# Altium schematic symbol library SI4532CDY-T1-GE3.SchLib: 1 symbol
Pins are listed as number, name and electrical type; pins without a type are passive.

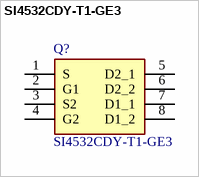
[diagram p0: symbol SI4532CDY-T1-GE3]

## SI4532CDY-T1-GE3
designator Q?
Vishay SI4532CDY-T1-GE3 Dual N/P-channel MOSFET Transistor, 8-Pin SOIC; Geometry.Height: 1.75mm; Mouser Part Number: 781-SI4532CDY-GE3; Mouser Price/Stock: https://www.mouser.co.uk/ProductDetail/Vishay-Semiconductors/SI4532CDY-T1-GE3?qs=45wPT2wjtGnob1HAmZ9n7g%3D%3D; Manufacturer_Name: Vishay; Manufacturer_Part_Number: SI4532CDY-T1-GE3; Datasheet Link: http://www.vishay.com/docs/64805/si4532cd.pdf
footprint SOT127P600X175-8N
pins: 1 S, 2 G1, 3 S2, 4 G2, 5 D2_1, 6 D2_2, 7 D1_1, 8 D1_2